# Altium schematic symbol library CN HDR 4POS Molex 39299044 VERT.Schlib: 1 symbol
Pins are listed as number, name and electrical type; pins without a type are passive.

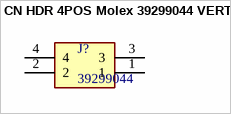
[diagram p0: symbol CN HDR 4POS Molex 39299044 VERT]

## CN HDR 4POS Molex 39299044 VERT
designator J?, comment 39299044
Molex 39299044 4POS Minifit / dual row, vertical
footprint 39299044 (4 POS MOLEX VERT)
pins: 1, 2, 3, 4